# Altium footprint library LM317T.PcbLib: 1 footprints
Each footprint in its own frame and in the unit in brackets; x right, y up, seen from the top. Pads: shape width x height; smd on the part's side, far side on the other; paste and mask are expansions set on the pad; w line width, h text height; cw(c..) or ccw(c..) is an arc to the next point about the centre after c.
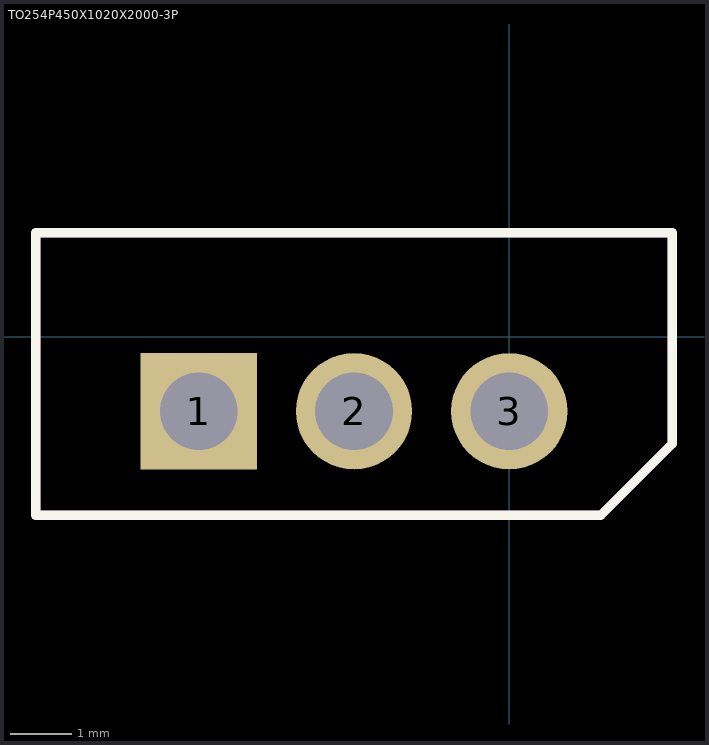
[diagram p0: the footprint, top view; thin cyan lines are the x and y axes]

## TO254P450X1020X2000-3P [mil]
pads (3):
  rect 75x75 hole 50: 1(-200,-48)
  round 75 hole 50: 2(-100,-48) 3(0,-48)
Top Overlay:
  lines w6: -305,-115 59,-115 105,-69 105,67 -305,67 -305,-115
Mechanical 1:
  lines w6: -305,-115 59,-115 105,-69 105,67 -305,67 -305,-115